# EAGLE library part CS4398-CZZ (library Project-H10)
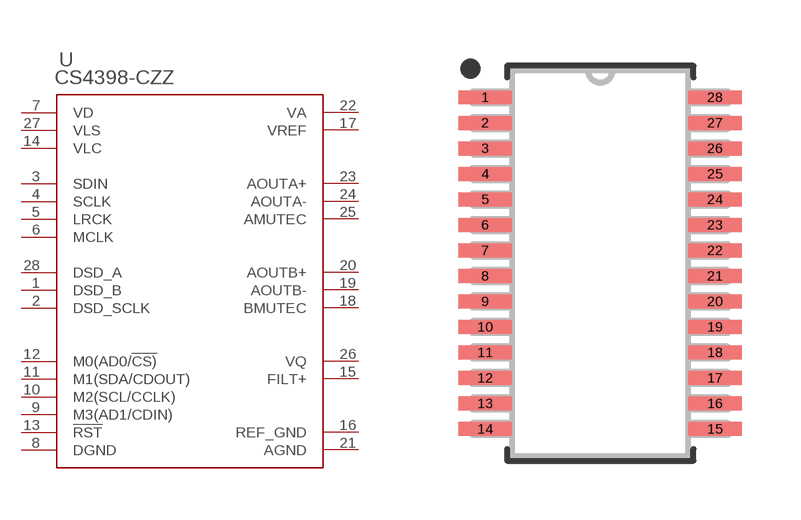
[diagram p4: symbol with the pads of CIR-TSSOP-28; footprint CIR-TSSOP-28]

Designator prefix U

## CS4398-CZZCIR-TSSOP-28 (COPYRIGHT: Copyright (C) 2023 Ultra Librarian. All rights reserved.; MANUFACTURER_PART_NUMBER: CS4398-CZZ; MFR_NAME: Cirrus Logic)  [CIR-TSSOP-28]
1  DSD_B  in
2  DSD_SCLK  in
3  SDIN  in
4  SCLK  in
5  LRCK  in
6  MCLK  in
7  VD  pwr
8  DGND  pwr
9  M3(AD1/CDIN)  in
10  M2(SCL/CCLK)  in
11  M1(SDA/CDOUT)
12  M0(AD0/!CS)  in
13  !RST  in
14  VLC  pwr
15  FILT+  out
16  REF_GND  pwr
17  VREF  in
18  BMUTEC  out
19  AOUTB-  out
20  AOUTB+  out
21  AGND  pwr
22  VA  pwr
23  AOUTA+  out
24  AOUTA-  out
25  AMUTEC  out
26  VQ  out
27  VLS  pwr
28  DSD_A  in

## Footprint CIR-TSSOP-28 (pad centres in mm)
smd 1.359 x 0.356: 1 -2.927,4.225; 2 -2.927,3.575; 3 -2.927,2.925; 4 -2.927,2.275; 5 -2.927,1.625; 6 -2.927,0.975; 7 -2.927,0.325; 8 -2.927,-0.325; 9 -2.927,-0.975; 10 -2.927,-1.625; 11 -2.927,-2.275; 12 -2.927,-2.925; 13 -2.927,-3.575; 14 -2.927,-4.225; 15 2.927,-4.225; 16 2.927,-3.575; 17 2.927,-2.925; 18 2.927,-2.275; 19 2.927,-1.625; 20 2.927,-0.975; 21 2.927,-0.325; 22 2.927,0.325; 23 2.927,0.975; 24 2.927,1.625; 25 2.927,2.275; 26 2.927,2.925; 27 2.927,3.575; 28 2.927,4.225